# EAGLE library part PIC18F25K22-I_SP (library PIC18F25K22-I_SP)
MCU 8-Bit PIC18 32KB Flash XLP SPDIP28 Microchip PIC18F25K22-I/SP, 8bit PIC Microcontroller, 64MHz, 32 kB Flash, 28-Pin PDIP Source: Datasheet <http://ww1.microchip.com/downloads/en/DeviceDoc/40001412G.pdf>
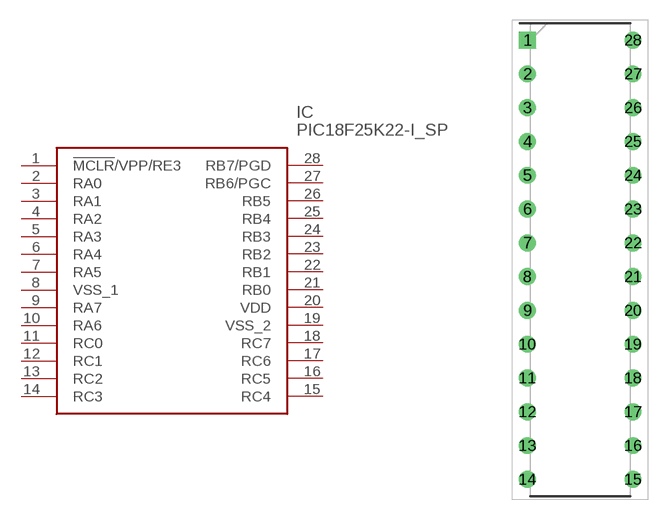
[diagram p0: symbol with the pads of DIP794W56P254L3486H508Q28N; footprint DIP794W56P254L3486H508Q28N]

Designator prefix IC

## PIC18F25K22-I_SP (Description: MCU 8-Bit PIC18 32KB Flash XLP SPDIP28 Microchip PIC18F25K22-I/SP, 8bit PIC Microcontroller, 64MHz, 32 kB Flash, 28-Pin PDIP; Height: 5.08mm; Manufacturer_Name: Microchip; Manufacturer_Part_Number: PIC18F25K22-I/SP; Mouser_Part_Number: 579-PIC18F25K22ISP; Mouser_Price-Stock: https://www.mouser.co.uk/ProductDetail/Microchip-Technology/PIC18F25K22-I-SP?qs=RXaOwepKlZ25c3%2FxinGXiw%3D%3D)  [DIP794W56P254L3486H508Q28N]
1  !MCLR!/VPP/RE3
2  RA0
3  RA1
4  RA2
5  RA3
6  RA4
7  RA5
8  VSS_1
9  RA7
10  RA6
11  RC0
12  RC1
13  RC2
14  RC3
15  RC4
16  RC5
17  RC6
18  RC7
19  VSS_2
20  VDD
21  RB0
22  RB1
23  RB2
24  RB3
25  RB4
26  RB5
27  RB6/PGC
28  RB7/PGD

## Footprint DIP794W56P254L3486H508Q28N (pad centres in mm)
28-Lead Skinny Plastic Dual In-Line (SP) - 300mil Body [SPDIP]
drill 0.759 pad 1.159 square: 1 -3.969,16.51
drill 0.759 pad 1.159: 2 -3.969,13.97; 3 -3.969,11.43; 4 -3.969,8.89; 5 -3.969,6.35; 6 -3.969,3.81; 7 -3.969,1.27; 8 -3.969,-1.27; 9 -3.969,-3.81; 10 -3.969,-6.35; 11 -3.969,-8.89; 12 -3.969,-11.43; 13 -3.969,-13.97; 14 -3.969,-16.51; 15 3.969,-16.51; 16 3.969,-13.97; 17 3.969,-11.43; 18 3.969,-8.89; 19 3.969,-6.35; 20 3.969,-3.81; 21 3.969,-1.27; 22 3.969,1.27; 23 3.969,3.81; 24 3.969,6.35; 25 3.969,8.89; 26 3.969,11.43; 27 3.969,13.97; 28 3.969,16.51